# EAGLE library part XMC4200-48 (library INF-XMC)
XMC4200-QFN48
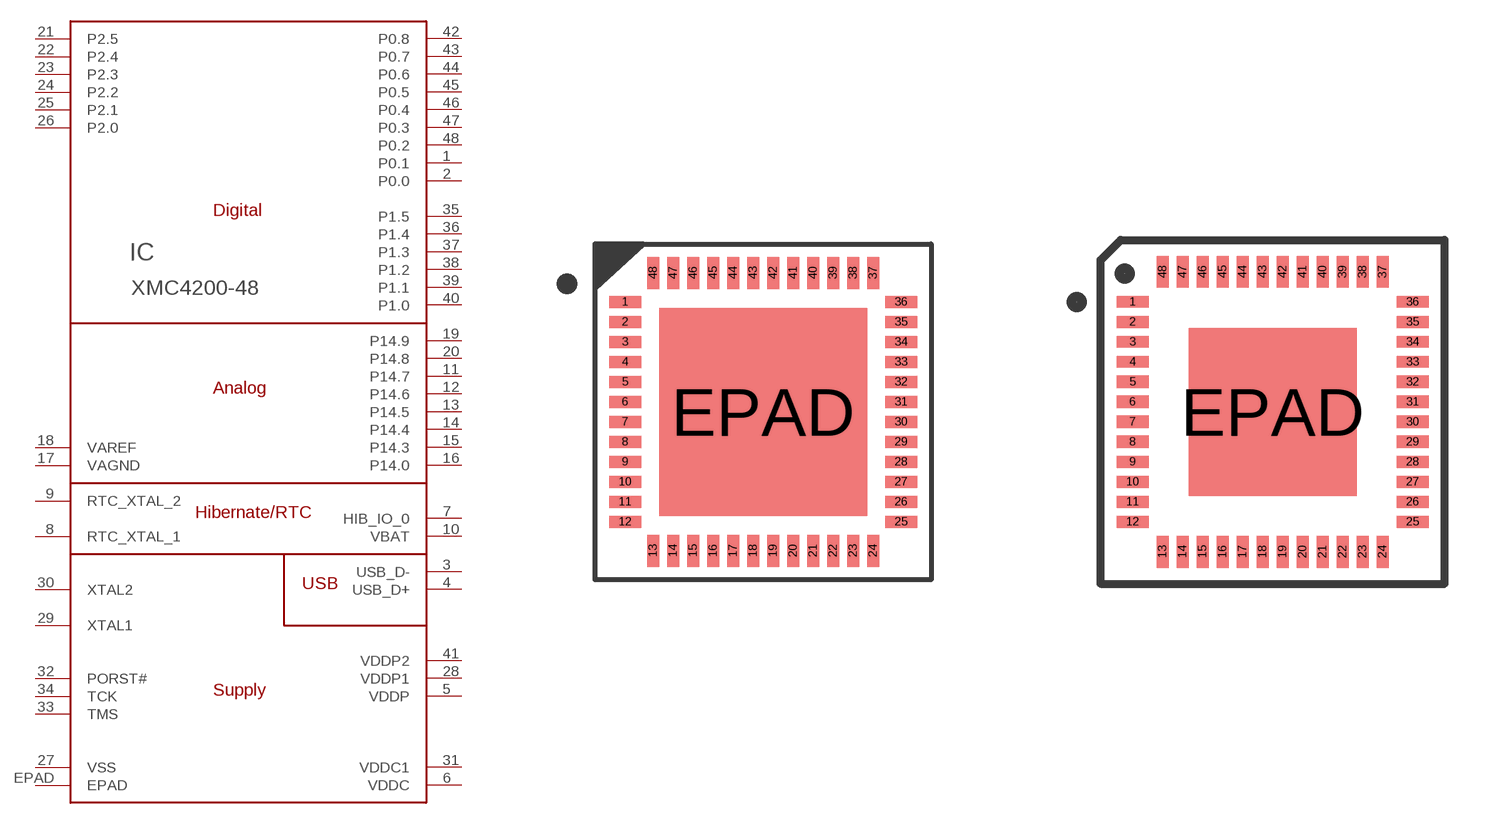
[diagram p2: symbol with the pads of QFN-48-7X7; footprints QFN-48-7X7, QFN-48P-7X7]

Designator prefix IC

## XMC4200-48QFNA  [QFN-48-7X7]
1  P0.1
2  P0.0
3  USB_D-
4  USB_D+
5  VDDP
6  VDDC
7  HIB_IO_0
8  RTC_XTAL_1
9  RTC_XTAL_2
10  VBAT
11  P14.7
12  P14.6
13  P14.5
14  P14.4
15  P14.3
16  P14.0
17  VAGND
18  VAREF
19  P14.9
20  P14.8
21  P2.5
22  P2.4
23  P2.3
24  P2.2
25  P2.1
26  P2.0
27  VSS
28  VDDP1
29  XTAL1
30  XTAL2
31  VDDC1
32  PORST#
33  TMS
34  TCK
35  P1.5
36  P1.4
37  P1.3
38  P1.2
39  P1.1
40  P1.0
41  VDDP2
42  P0.8
43  P0.7
44  P0.6
45  P0.5
46  P0.4
47  P0.3
48  P0.2
EPAD  EPAD

## XMC4200-48QFN  [QFN-48P-7X7]
Pads as for QFN-48-7X7

## Footprint QFN-48-7X7 (pad centres in mm)
QFN-48 (7x7)
smd 0.8 x 0.3: 1 -3.45,2.75; 2 -3.45,2.25; 3 -3.45,1.75; 4 -3.45,1.25; 5 -3.45,0.75; 6 -3.45,0.25; 7 -3.45,-0.25; 8 -3.45,-0.75; 9 -3.45,-1.25; 10 -3.45,-1.75; 11 -3.45,-2.25; 12 -3.45,-2.75; 25 3.45,-2.75; 26 3.45,-2.25; 27 3.45,-1.75; 28 3.45,-1.25; 29 3.45,-0.75; 30 3.45,-0.25; 31 3.45,0.25; 32 3.45,0.75; 33 3.45,1.25; 34 3.45,1.75; 35 3.45,2.25; 36 3.45,2.75
smd 0.3 x 0.8: 13 -2.75,-3.475; 14 -2.25,-3.475; 15 -1.75,-3.475; 16 -1.25,-3.475; 17 -0.75,-3.475; 18 -0.25,-3.475; 19 0.25,-3.475; 20 0.75,-3.475; 21 1.25,-3.475; 22 1.75,-3.475; 23 2.25,-3.475; 24 2.75,-3.475; 37 2.75,3.475; 38 2.25,3.475; 39 1.75,3.475; 40 1.25,3.475; 41 0.75,3.475; 42 0.25,3.475; 43 -0.25,3.475; 44 -0.75,3.475; 45 -1.25,3.475; 46 -1.75,3.475; 47 -2.25,3.475; 48 -2.75,3.475
smd 5.2 x 5.2: EPAD 0,0

## Footprint QFN-48P-7X7 (pad centres in mm)
QFN48P-7X7
smd 0.8 x 0.3: 1 -3.5,2.75; 2 -3.5,2.25; 3 -3.5,1.75; 4 -3.5,1.25; 5 -3.5,0.75; 6 -3.5,0.25; 7 -3.5,-0.25; 8 -3.5,-0.75; 9 -3.5,-1.25; 10 -3.5,-1.75; 11 -3.5,-2.25; 12 -3.5,-2.75; 25 3.5,-2.75; 26 3.5,-2.25; 27 3.5,-1.75; 28 3.5,-1.25; 29 3.5,-0.75; 30 3.5,-0.25; 31 3.5,0.25; 32 3.5,0.75; 33 3.5,1.25; 34 3.5,1.75; 35 3.5,2.25; 36 3.5,2.75
smd 0.3 x 0.8: 13 -2.75,-3.5; 14 -2.25,-3.5; 15 -1.75,-3.5; 16 -1.25,-3.5; 17 -0.75,-3.5; 18 -0.25,-3.5; 19 0.25,-3.5; 20 0.75,-3.5; 21 1.25,-3.5; 22 1.75,-3.5; 23 2.25,-3.5; 24 2.75,-3.5; 37 2.75,3.5; 38 2.25,3.5; 39 1.75,3.5; 40 1.25,3.5; 41 0.75,3.5; 42 0.25,3.5; 43 -0.25,3.5; 44 -0.75,3.5; 45 -1.25,3.5; 46 -1.75,3.5; 47 -2.25,3.5; 48 -2.75,3.5
smd 4.2 x 4.2: EPAD 0,0